# EAGLE library part TMP302 (library texas-instruments)
TEMP SWITCH
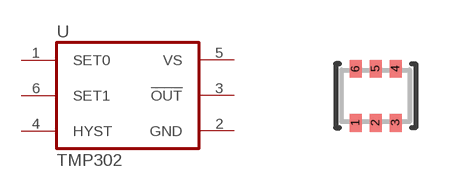
[diagram p5: symbol with the pads of SOT563; footprint SOT563]

Designator prefix U

## TMP302 (P1I: o)  [SOT563]
1  SET0
2  GND  pwr
3  !OUT!  out
4  HYST  in
5  VS  pwr
6  SET1

## Footprint SOT563 (pad centres in mm)
SOT-563 DRL (R-PDSO-N6)
smd 0.3 x 0.45: 1 -0.5,-0.675; 2 0,-0.675; 3 0.5,-0.675; 4 0.5,0.675; 5 0,0.675; 6 -0.5,0.675